# EAGLE library part USB-MICRO-B-SMD-CUSTOM (library SparkFun-Connectors)
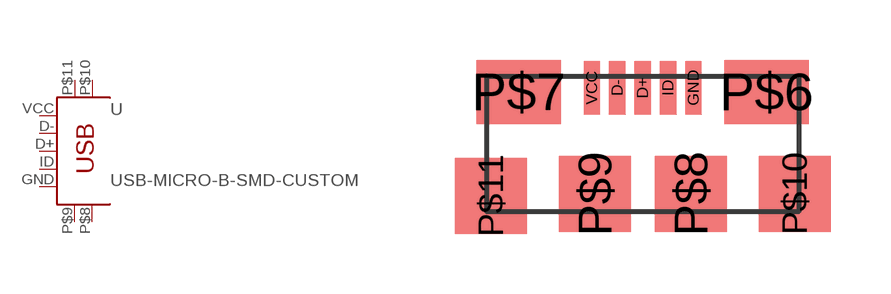
[diagram p86: symbol with the pads of USB-MICRO-B-SMD-CUSTOM; footprint USB-MICRO-B-SMD-CUSTOM]

Designator prefix -

## USB-MICRO-B-SMD-CUSTOM  [USB-MICRO-B-SMD-CUSTOM]
D+  D+
D-  D-
GND  GND
ID  ID
P$8  MTN4
P$9  MTN3
P$10  MTN2
P$11  MTN1
VCC  VBUS

## Footprint USB-MICRO-B-SMD-CUSTOM (pad centres in mm)
smd 0.406 x 1.346: D+ 0,0; D- -0.635,0; GND 1.27,0; ID 0.635,0; VCC -1.27,0
smd 2.108 x 1.6: P$6 3.1,-0.1; P$7 -3.1,-0.1
smd 1.8 x 1.9: P$8 1.2,-2.65; P$9 -1.2,-2.65; P$10 3.8,-2.65; P$11 -3.8,-2.7